# Altium footprint library PcbLibrary.PcbLib: 1 footprints
Each footprint in its own frame and in the unit in brackets; x right, y up, seen from the top. Pads: shape width x height; smd on the part's side, far side on the other; paste and mask are expansions set on the pad; w line width, h text height; cw(c..) or ccw(c..) is an arc to the next point about the centre after c.
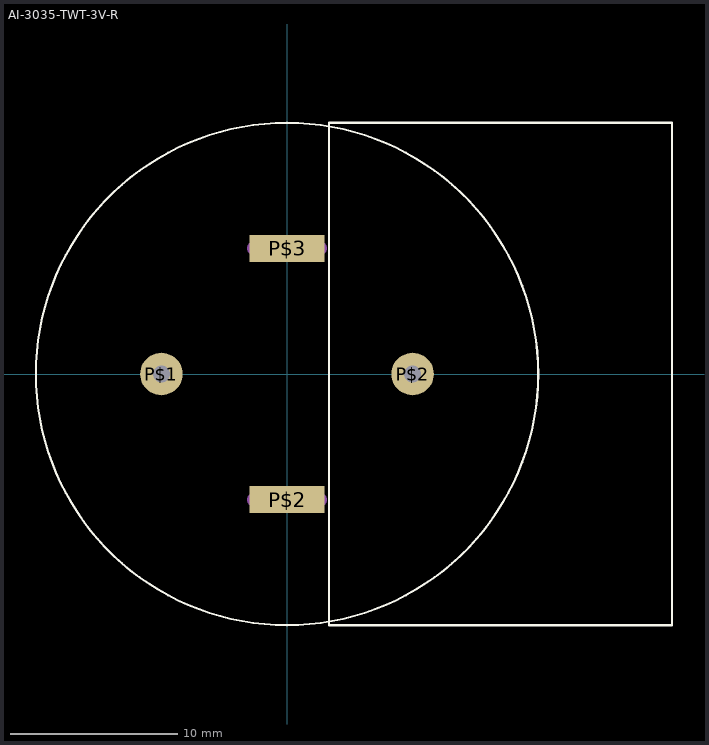
[diagram p0: the footprint, top view; thin cyan lines are the x and y axes]

## AI-3035-TWT-3V-R [mm]
pads (4):
  round 2.54 hole 1: P$1(-7.5,0) P$2(7.5,0)
  rect 4.5x1.6 smd: P$2(0,-7.5) P$3(0,7.5)
Top Overlay:
  circle w0.127: c0,0 r15
  lines w0.127: 2.5,-15 2.5,15 23,15 23,-15 2.5,-15
Mechanical 13:
  lines w0.8: -2,-7.5 2,-7.5 ; -2,7.5 2,7.5